# Altium footprint library BU01 UWB.PcbLib: 2 footprints
Each footprint in its own frame and in the unit in brackets; x right, y up, seen from the top. Pads: shape width x height; smd on the part's side, far side on the other; paste and mask are expansions set on the pad; w line width, h text height; cw(c..) or ccw(c..) is an arc to the next point about the centre after c.
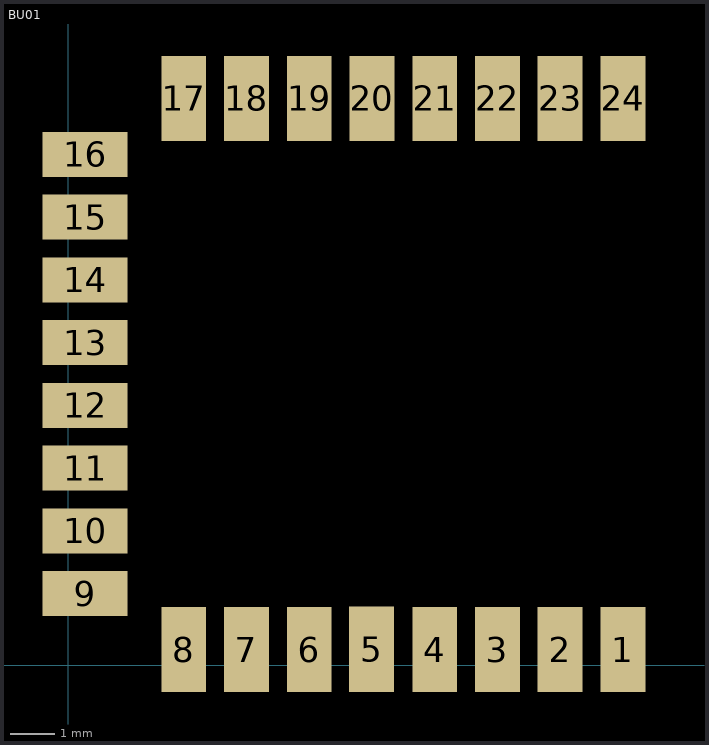
[diagram p0: the footprints below, top view; thin cyan lines are the x and y axes]

## BU01 [mm]
pads (24):
  rect 1x1.9 smd: 1(12.375,0.35) 2(10.975,0.35) 3(9.575,0.35) 4(8.175,0.35) 5(6.768,0.358) 6(5.375,0.35) 7(3.975,0.35) 8(2.575,0.35) 17(2.575,12.65) 18(3.975,12.65) 19(5.375,12.65) 20(6.775,12.65) 21(8.175,12.65) 22(9.575,12.65) 23(10.975,12.65) 24(12.375,12.65)
  rect 1.9x1 smd: 9(0.375,1.6) 10(0.375,3) 11(0.375,4.4) 12(0.375,5.8) 13(0.375,7.2) 14(0.375,8.6) 15(0.375,10) 16(0.375,11.4)
3D body "BU01.step": height 0, standoff -2.5, extent 0.019,0.006 23.019,13.006

## PCBComponent_1 [mm]